# Altium schematic symbol library 105309-1102.SchLib: 1 symbol
Pins are listed as number, name and electrical type; pins without a type are passive.

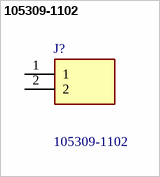
[diagram p0: symbol 105309-1102]

## 105309-1102
designator J?
Headers & Wire Housings NANOFIT HDR VT SGL KNK 2CKT TIN BLK; Manufacturer_Name: Molex; Geometry.Height: 10.51mm; Mouser Part Number: 538-105309-1102; Mouser Price/Stock: https://www.mouser.co.uk/ProductDetail/Molex/105309-1102?qs=5aG0NVq1C4zzTOxEjLJqtg%3D%3D; Manufacturer_Part_Number: 105309-1102; Datasheet Link: http://www.molex.com/pdm_docs/sd/1053091102_sd.pdf
footprint 1053091102
pins: 1, 2